# Altium footprint library TI_DCT_R-PDSO-G8_N.PcbLib: 1 footprints
Each footprint in its own frame and in the unit in brackets; x right, y up, seen from the top. Pads: shape width x height; smd on the part's side, far side on the other; paste and mask are expansions set on the pad; w line width, h text height; cw(c..) or ccw(c..) is an arc to the next point about the centre after c.
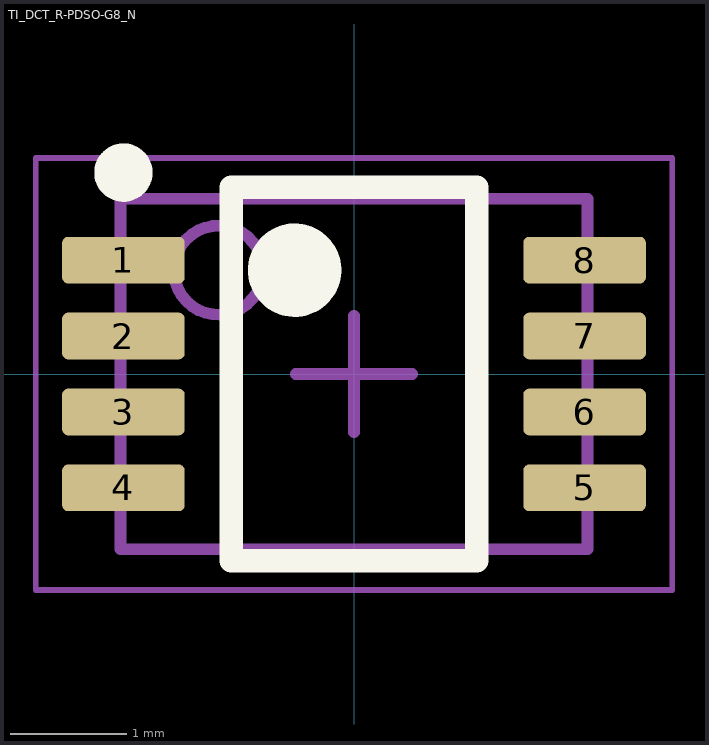
[diagram p0: the footprint, top view; thin cyan lines are the x and y axes]

## TI_DCT_R-PDSO-G8_N [mm] "SOP, 8-Leads, Body 2.9x3.2mm, Pitch 0.65mm, IPC Medium Density"
height 1.3
pads (8):
  rrect25% 1.05x0.4 smd: 1(-1.975,0.975) 2(-1.975,0.325) 3(-1.975,-0.325) 4(-1.975,-0.975) 5(1.975,-0.975) 6(1.975,-0.325) 7(1.975,0.325) 8(1.975,0.975)
Top Overlay:
  circle w0.25: c-1.975,1.725 r0.125
  circle w0.4: c-0.508,0.889 r0.2
  lines w0.2: -1.05,-1.6 -1.05,1.6 1.05,1.6 1.05,-1.6 -1.05,-1.6
M5 Assembly Top:
  circle w0.1: c-1.162,0.889 r0.381
  lines w0.1: -2,-1.5 2,-1.5 2,1.5 -2,1.5 -2,-1.5
  text ".Designator" at -1.624,-1 h0.76
Mechanical 15:
  lines w0.05: -2.725,-1.85 -2.725,1.85 2.725,1.85 2.725,-1.85 -2.725,-1.85
  lines w0.1: -0.5,0 0.5,0 ; 0,-0.5 0,0.5
3D body "DCT0008A.stp": height 1.3, standoff 0, extent -2.011,-1.475 2.011,1.475